# EAGLE library part THVD24X2 (library Public)
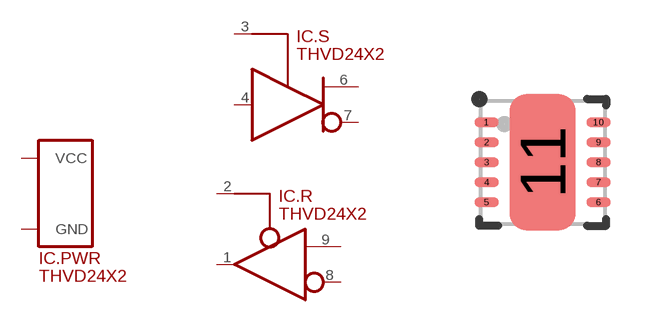
[diagram p215: symbol with the pads of VSON10; footprint VSON10]

Designator prefix IC; gates .PWR=SUPPLY_VCC/GND .S=DIFFERENTIAL_SENDER .R=DIFFERENTIAL_RECEIVER

## THVD24X2  [VSON10]
1  .R:DATA
2  .R:EN
3  .S:EN
4  .S:DATA
5  .PWR:GND
6  .S:DIFF+
7  .S:DIFF-
8  .R:DIFF-
9  .R:DIFF+
10  .PWR:VCC
11  .PWR:GND

## Footprint VSON10 (pad centres in mm)
smd 0.6 x 0.24: 1 -1.4,1; 2 -1.4,0.5; 3 -1.4,0; 4 -1.4,-0.5; 5 -1.4,-1; 6 1.4,-1; 7 1.4,-0.5; 8 1.4,0; 9 1.4,0.5; 10 1.4,1
smd 1.65 x 3.4: 11 0,0